# Altium footprint library PcbLib1.PcbLib: 43 footprints (part 3 of 3)
Each footprint in its own frame and in the unit in brackets; x right, y up, seen from the top. Pads: shape width x height; smd on the part's side, far side on the other; paste and mask are expansions set on the pad; w line width, h text height; cw(c..) or ccw(c..) is an arc to the next point about the centre after c.
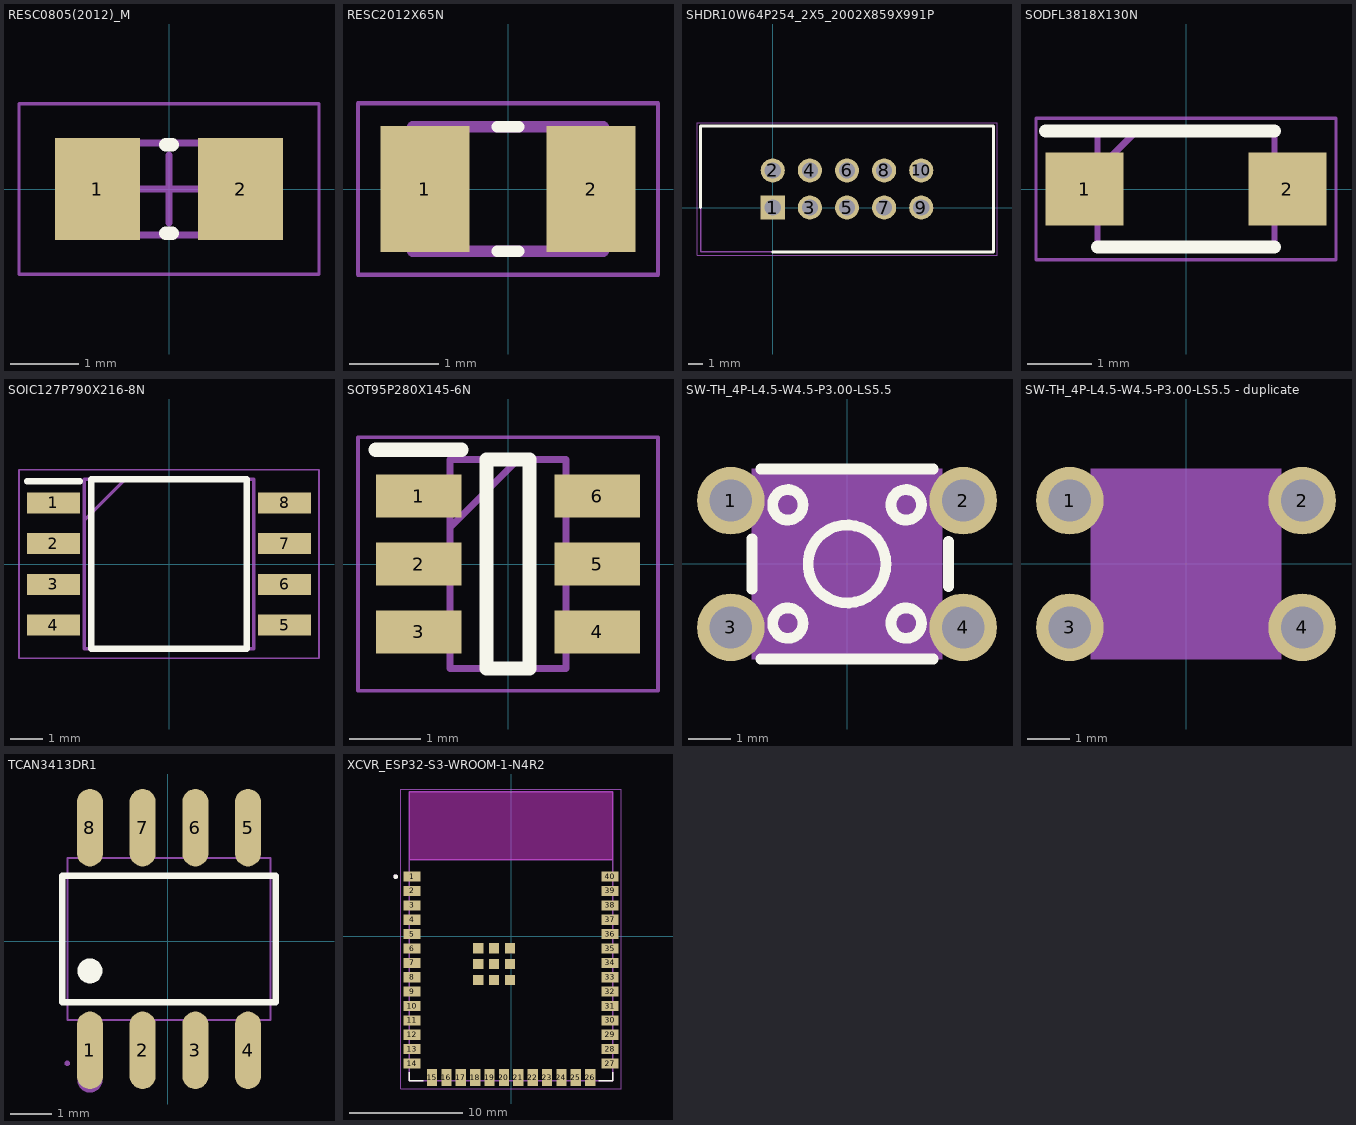
[diagram p2: the footprints below, top view; thin cyan lines are the x and y axes]

## PCBComponent_1 [mm]

## RESC0805(2012)_M [mm] "Chip Resistor, Body 2.0x1.3mm, IPC Low Density"
height 0.7
pads (2):
  rect 1.25x1.5 smd: 1(-1.05,0) 2(1.05,0)
Top Overlay:
  lines w0.2: -0.05,-0.65 0.05,-0.65 ; -0.05,0.65 0.05,0.65
Top 3D Body:
  lines w0.1: -1.1,-0.675 -1.1,0.675 1.1,0.675 1.1,-0.675 -1.1,-0.675
Top Courtyard:
  lines w0.05: -2.2,-1.25 -2.2,1.25 2.2,1.25 2.2,-1.25 -2.2,-1.25
  lines w0.1: -0.5,0 0.5,0 ; 0,-0.5 0,0.5
3D body: height 0.7, standoff 0, extent -1.1,-0.675 -0.68,0.675
3D body: height 0.7, standoff 0, extent -0.68,-0.675 0.68,0.675
3D body: height 0.7, standoff 0, extent 0.68,-0.675 1.1,0.675

## RESC2012X65N [mm]
pads (2):
  rect 1x1.42 smd: 1(-0.935,0) 2(0.935,0)
Top Overlay:
  lines w0.127: -0.12,-0.7 0.12,-0.7 ; -0.12,0.7 0.12,0.7
Top 3D Body:
  lines w0.127: -1.07,-0.7 1.07,-0.7 1.07,0.7 -1.07,0.7 -1.07,-0.7
Top Courtyard:
  lines w0.05: -1.685,-0.962 1.685,-0.962 1.685,0.962 -1.685,0.962 -1.685,-0.962
3D body "step_temp.STEP": height 0.65, standoff 0, extent -1,-0.625 1,0.625

## SHDR10W64P254_2X5_2002X859X991P [mm]
pads (10):
  rect 1.65x1.65 hole 1.1: 1(0,0)
  round 1.65 hole 1.1: 2(0,2.54) 3(2.54,0) 4(2.54,2.54) 5(5.08,0) 6(5.08,2.54) 7(7.62,0) 8(7.62,2.54) 9(10.16,0) 10(10.16,2.54)
Top Overlay:
  lines w0.2: -4.93,0 -4.93,5.565 15.09,5.565 15.09,-3.025 0,-3.025
Top 3D Body:
  lines w0.1: -4.93,-3.025 -4.93,5.565 15.09,5.565 15.09,-3.025 -4.93,-3.025
Top Courtyard:
  lines w0.05: -5.18,-3.275 -5.18,5.815 15.34,5.815 15.34,-3.275 -5.18,-3.275
3D body "2510-6002UB.stp": height 9.91, standoff -2.84, extent -4.93,-3.025 15.09,5.565

## SODFL3818X130N [mm]
pads (2):
  rect 1.21x1.13 smd: 1(-1.575,0) 2(1.575,0)
Top Overlay:
  lines w0.2: -2.18,0.9 1.375,0.9 ; -1.375,-0.9 1.375,-0.9
Top 3D Body:
  lines w0.1: -1.375,0.295 -0.77,0.9 ; -1.375,-0.9 -1.375,0.9 1.375,0.9 1.375,-0.9 -1.375,-0.9
Top Courtyard:
  lines w0.05: -2.33,-1.1 -2.33,1.1 2.33,1.1 2.33,-1.1 -2.33,-1.1
3D body "DSK34.stp": height 1.3, standoff 0, extent -1.875,-0.9 1.875,0.9

## SOIC127P790X216-8N [mm]
pads (8):
  rect 1.65x0.65 smd: 1(-3.6,1.905) 2(-3.6,0.635) 3(-3.6,-0.635) 4(-3.6,-1.905) 5(3.6,-1.905) 6(3.6,-0.635) 7(3.6,0.635) 8(3.6,1.905)
Top Overlay:
  lines w0.2: -4.425,2.58 -2.775,2.58 ; -2.425,-2.64 -2.425,2.64 2.425,2.64 2.425,-2.64 -2.425,-2.64
Top 3D Body:
  lines w0.1: -2.64,1.37 -1.37,2.64 ; -2.64,-2.64 -2.64,2.64 2.64,2.64 2.64,-2.64 -2.64,-2.64
Top Courtyard:
  lines w0.05: -4.675,-2.94 -4.675,2.94 4.675,2.94 4.675,-2.94 -4.675,-2.94
3D body "W25Q64JVSSIQ.stp": height 2.16, standoff 0, extent -3.95,-2.64 3.95,2.64

## SOT95P280X145-6N [mm]
pads (6):
  rect 1.2x0.6 smd: 1(-1.25,0.95) 2(-1.25,0) 3(-1.25,-0.95) 4(1.25,-0.95) 5(1.25,0) 6(1.25,0.95)
Top Overlay:
  lines w0.2: -1.85,1.6 -0.65,1.6 ; -0.3,-1.462 0.3,-1.462 0.3,1.462 -0.3,1.462 -0.3,-1.462
Top 3D Body:
  lines w0.05: -2.1,-1.775 2.1,-1.775 2.1,1.775 -2.1,1.775 -2.1,-1.775
  lines w0.1: -0.812,0.512 0.138,1.462 ; -0.812,-1.462 0.812,-1.462 0.812,1.462 -0.812,1.462 -0.812,-1.462
3D body "step_temp.STEP": height 0.4, standoff -1.05, extent -1.4,-1.462 1.4,1.462

## SW-TH_4P-L4.5-W4.5-P3.00-LS5.5 [mm]
pads (4):
  round 1.6 hole 1: 1(-2.75,1.5) 2(2.75,1.5) 3(-2.75,-1.5) 4(2.75,-1.5)
Top Overlay:
  circle w0.254: c1.4,-1.4 r0.361
  circle w0.254: c-1.4,-1.4 r0.361
  circle w0.254: c-1.4,1.4 r0.361
  circle w0.254: c1.4,1.4 r0.361
  circle w0.254: c0,0 r0.922
  lines w0.254: -2.25,-0.599 -2.25,0.598 ; -2.043,-2.25 2.043,-2.25 ; -2.044,2.25 2.044,2.25 ; 2.4,-0.53 2.4,0.53
Mechanical 4:
  region: -2.25,-2.25 -2.25,2.25 2.25,2.25 2.25,-2.25
Top Assembly:
  pour cut-out: -2.15,-1.85 -2.9,-1.85 -2.9,-1.15 -2.15,-1.15
  pour cut-out: 2.9,-1.85 2.15,-1.85 2.15,-1.15 2.9,-1.15
  pour cut-out: 2.9,1.15 2.15,1.15 2.15,1.85 2.9,1.85
  pour cut-out: -2.15,1.15 -2.9,1.15 -2.9,1.85 -2.15,1.85
  region: -2.9,1.85 -2.6,1.85 -2.6,1.15 -2.9,1.15
  region: -2.9,-1.15 -2.6,-1.15 -2.6,-1.85 -2.9,-1.85
  region: 2.6,1.85 2.9,1.85 2.9,1.15 2.6,1.15
  region: 2.6,-1.15 2.9,-1.15 2.9,-1.85 2.6,-1.85

## SW-TH_4P-L4.5-W4.5-P3.00-LS5.5 - duplicate [mm]
pads (4):
  round 1.6 hole 1: 1(-2.75,1.5) 2(2.75,1.5) 3(-2.75,-1.5) 4(2.75,-1.5)
Mechanical 4:
  region: -2.25,-2.25 -2.25,2.25 2.25,2.25 2.25,-2.25
Top Assembly:
  region: 2.6,-1.15 2.9,-1.15 2.9,-1.85 2.6,-1.85
  region: 2.6,1.85 2.9,1.85 2.9,1.15 2.6,1.15
  region: -2.9,-1.15 -2.6,-1.15 -2.6,-1.85 -2.9,-1.85
  region: -2.9,1.85 -2.6,1.85 -2.6,1.15 -2.9,1.15
  pour cut-out: -2.15,1.15 -2.9,1.15 -2.9,1.85 -2.15,1.85
  pour cut-out: 2.9,1.15 2.15,1.15 2.15,1.85 2.9,1.85
  pour cut-out: 2.9,-1.85 2.15,-1.85 2.15,-1.15 2.9,-1.15
  pour cut-out: -2.15,-1.85 -2.9,-1.85 -2.9,-1.15 -2.15,-1.15

## TCAN3413DR1 [mm]
pads (8):
  oval 0.63x1.865 smd: 1(-1.877,-2.624) 2(-0.607,-2.624) 3(0.663,-2.624) 4(1.933,-2.624) 5(1.933,2.741) 6(0.663,2.741) 7(-0.607,2.741) 8(-1.877,2.741)
Top Overlay:
  circle w0.3: c-1.877,-0.71 r0.15
  lines w0.152: -2.548,-1.462 -2.548,1.581 2.605,1.581 2.605,-1.462 -2.548,-1.462
Mechanical 6:
  circle w0.3: c-1.877,-3.341 r0.15
Top Courtyard:
  region: -2.362,-2.941 -2.362,-2.966 -2.397,-3.001 -2.446,-3.001 -2.482,-2.966 -2.482,-2.941 -2.482,-2.916 -2.446,-2.881 -2.397,-2.881 -2.362,-2.916
  region: -2.092,-2.301 -2.092,-1.881 -1.662,-1.881 -1.662,-2.301
  region: -2.092,-2.941 -2.092,-2.291 -1.662,-2.291 -1.662,-2.941
  region: -0.822,-2.301 -0.822,-1.881 -0.392,-1.881 -0.392,-2.301
  region: -0.822,-2.941 -0.822,-2.291 -0.392,-2.291 -0.392,-2.941
  region: 0.448,-2.301 0.448,-1.881 0.878,-1.881 0.878,-2.301
  region: 0.448,-2.941 0.448,-2.291 0.878,-2.291 0.878,-2.941
  region: 1.718,-2.301 1.718,-1.881 2.148,-1.881 2.148,-2.301
  region: 1.718,-2.941 1.718,-2.291 2.148,-2.291 2.148,-2.941
  region: -2.092,1.999 -2.092,2.419 -1.662,2.419 -1.662,1.999
  region: -2.092,2.409 -2.092,3.059 -1.662,3.059 -1.662,2.409
  region: -0.822,1.999 -0.822,2.419 -0.392,2.419 -0.392,1.999
  region: -0.822,2.409 -0.822,3.059 -0.392,3.059 -0.392,2.409
  region: 0.448,1.999 0.448,2.419 0.878,2.419 0.878,1.999
  region: 0.448,2.409 0.448,3.059 0.878,3.059 0.878,2.409
  region: 1.718,1.999 1.718,2.419 2.148,2.419 2.148,1.999
  region: 1.718,2.409 1.718,3.059 2.148,3.059 2.148,2.409
  lines w0.051: -2.422,-1.891 -2.422,2.009 2.478,2.009 2.478,-1.891 -2.422,-1.891
3D body "TSIC 306 SOP-8--3DModel-STEP-510211.STEP": height 1.73, standoff 0, extent -2.438,-2.972 2.489,3.023

## XCVR_ESP32-S3-WROOM-1-N4R2 [mm]
height 3.25
pads (49):
  rect 1.5x0.9 smd: 1(-8.75,5.26) 2(-8.75,3.99) 3(-8.75,2.72) 4(-8.75,1.45) 5(-8.75,0.18) 6(-8.75,-1.09) 7(-8.75,-2.36) 8(-8.75,-3.63) 9(-8.75,-4.9) 10(-8.75,-6.17) 11(-8.75,-7.44) 12(-8.75,-8.71) 13(-8.75,-9.98) 14(-8.75,-11.25) 27(8.75,-11.25) 28(8.75,-9.98) 29(8.75,-8.71) 30(8.75,-7.44) 31(8.75,-6.17) 32(8.75,-4.9) 33(8.75,-3.63) 34(8.75,-2.36) 35(8.75,-1.09) 36(8.75,0.18) 37(8.75,1.45) 38(8.75,2.72) 39(8.75,3.99) 40(8.75,5.26)
  rect 0.9x1.5 smd: 15(-6.985,-12.5) 16(-5.715,-12.5) 17(-4.445,-12.5) 18(-3.175,-12.5) 19(-1.905,-12.5) 20(-0.635,-12.5) 21(0.635,-12.5) 22(1.905,-12.5) 23(3.175,-12.5) 24(4.445,-12.5) 25(5.715,-12.5) 26(6.985,-12.5)
  rect 0.9x0.9 smd: 41_1(-1.5,-2.46) 41_2(-2.9,-2.46) 41_3(-0.1,-2.46) 41_4(-2.9,-3.86) 41_5(-1.5,-3.86) 41_6(-0.1,-3.86) 41_7(-2.9,-1.06) 41_8(-1.5,-1.06) 41_9(-0.1,-1.06)
Top Overlay:
  circle w0.2: c-10.2,5.26 r0.1
  lines w0.127: -9,-12.02 -9,-12.75 -7.755,-12.75 ; 7.755,-12.75 9,-12.75 9,-12.02
Keep-Out Layer:
  region: 9,6.75 -9,6.75 -9,12.75 9,12.75
  region: 9,6.75 -9,6.75 -9,12.75 9,12.75
Top 3D Body:
  circle w0.2: c-10.2,5.26 r0.1
  lines w0.127: -9,6.75 9,6.75 ; -9,6.75 -9,12.75 9,12.75 9,6.75 ; -9,6.75 -9,-12.75 9,-12.75 9,6.75
  text "ANTENNA" at -4.5,9.5 h1.27
Top Courtyard:
  lines w0.05: -9.75,-13.5 9.75,-13.5 9.75,13 -9.75,13 -9.75,-13.5
3D body "step_temp.STEP": height 3.25, standoff 0, extent -9,-12.75 9,12.75